# Altium schematic symbol library SMS_Library.SchLib: 7 symbols
Pins are listed as number, name and electrical type; pins without a type are passive.

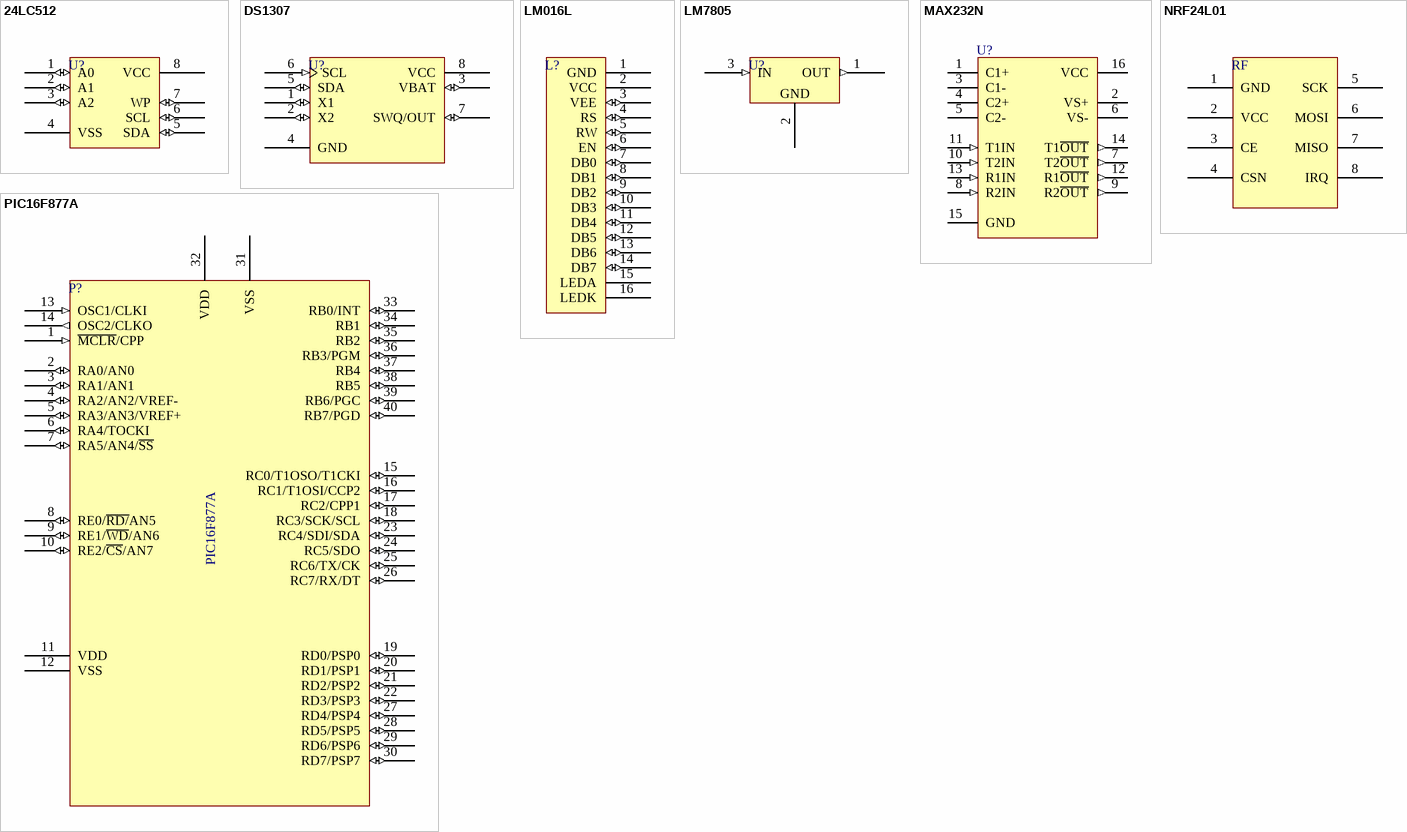
[diagram p0: symbols 24LC512 to PIC16F877A]

## 24LC512
designator U?
footprint 24LC512
pins: 1 A0 (io), 2 A1 (io), 3 A2 (io), 4 VSS, 5 SDA (io), 6 SCL (io), 7 WP (io), 8 VCC (power)

## DS1307
designator U?
footprint DS1307
pins: 1 X1 (io), 2 X2 (io), 3 VBAT (io), 4 GND, 5 SDA (io), 6 SCL (in), 7 SWQ/OUT (io), 8 VCC (power)

## LM016L
designator L?
footprint LM016L
pins: 1 GND, 2 VCC (power), 3 VEE (io), 4 RS (io), 5 RW (io), 6 EN (io), 7 DB0 (io), 8 DB1 (io), 9 DB2 (io), 10 DB3 (io), 11 DB4 (io), 12 DB5 (io), 13 DB6 (io), 14 DB7 (io), 15 LEDA (power), 16 LEDK

## LM7805
designator U?
footprint LM7805
pins: 1 OUT (out), 2 GND, 3 IN (in)

## MAX232N
designator U?
Dual EIA-232 Driver/Receiver; Manufacturer: Texas Instruments; Class: Interface; SubClass: Line Transceiver; Note: Receivers have typical hysteresis of 0.5V; Published: 15/05/2002; Publisher: Altium Hobart Technology Centre
footprint DIP-16/X1.5
pins: 1 C1+, 2 VS+ (power), 3 C1-, 4 C2+, 5 C2-, 6 VS- (power), 7 T2~{OUT} (out), 8 R2IN (in), 9 R2~{OUT} (out), 10 T2IN (in), 11 T1IN (in), 12 R1~{OUT} (out), 13 R1IN (in), 14 T1~{OUT} (out), 15 GND (power), 16 VCC (power)

## NRF24L01
designator RF
footprint NRF24L01
pins: 1 GND, 2 VCC, 3 CE, 4 CSN, 5 SCK, 6 MOSI, 7 MISO, 8 IRQ

## PIC16F877A
designator P?
footprint PIC16F877A
pins: 1 ~{MCLR}/CPP (in), 2 RA0/AN0 (io), 3 RA1/AN1 (io), 4 RA2/AN2/VREF- (io), 5 RA3/AN3/VREF+ (io), 6 RA4/TOCKI (io), 7 RA5/AN4/~{SS} (io), 8 RE0/~{RD/}AN5 (io), 9 RE1/~{WD}/AN6 (io), 10 RE2/~{CS}/AN7 (io), 11 VDD (power), 12 VSS, 13 OSC1/CLKI (in), 14 OSC2/CLKO (out), 15 RC0/T1OSO/T1CKI (io), 16 RC1/T1OSI/CCP2 (io), 17 RC2/CPP1 (io), 18 RC3/SCK/SCL (io), 19 RD0/PSP0 (io), 20 RD1/PSP1 (io), 21 RD2/PSP2 (io), 22 RD3/PSP3 (io), 23 RC4/SDI/SDA (io), 24 RC5/SDO (io), 25 RC6/TX/CK (io), 26 RC7/RX/DT (io), 27 RD4/PSP4 (io), 28 RD5/PSP5 (io), 29 RD6/PSP6 (io), 30 RD7/PSP7 (io), 31 VSS, 32 VDD (power), 33 RB0/INT (io), 34 RB1 (io), 35 RB2 (io), 36 RB3/PGM (io), 37 RB4 (io), 38 RB5 (io), 39 RB6/PGC (io), 40 RB7/PGD (io)